# Altium schematic symbol library BSR NODE_V2.0 LIB.SchLib: 98 symbols
Pins are listed as number, name and electrical type; pins without a type are passive.

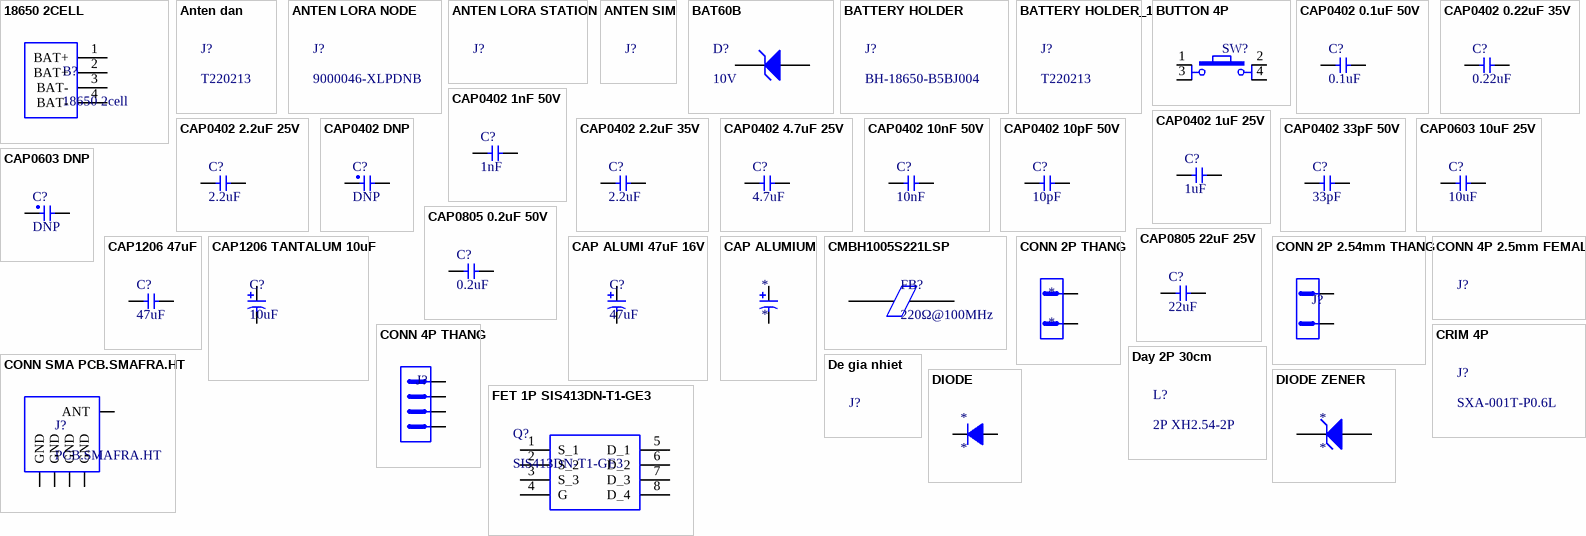
[diagram p0: symbols 18650 2CELL to FET 1P SIS413DN-T1-GE3]

## 18650 2CELL
designator B?, comment 18650 2cell
BATTERY HOLDER; Manufacturer: CXT; Manufacturer Part Number: T220213; Supplier: CXT; Unit Price: 9.000VND
footprint 18650 2CELL
pins: 1 BAT+, 2 BAT+, 3 BAT-, 4 BAT-

## Anten dan
designator J?, comment T220213
KK23011-32-7H  anten IPEX/IPX U.FL-R-SMT SMD; Manufacturer: CXT; Manufacturer Part Number: C022002; Supplier: CXT; Unit Price: 1.700VND

## ANTEN LORA NODE
designator J?, comment 9000046-XLPDNB
891.5MHz Cellular, LPWA, LoRa, IoT, ISM, Sigfox Whip, Straight RF Antenna 868MHz ~ 915MHz 0.9dBi SMA Male Connector Mount; Manufacturer: KYOCERA AVX; Manufacturer Part Number: 9000046-XLPDNB; Supplier: Digikey; Unit Price: $5.22

## ANTEN LORA STATION
designator J?  (value not drawn)
Anten Lora 868/915Mhz 30dBi SMA MALE; Manufacturer: HSHOP; Manufacturer Part Number: HS001654; Supplier: HSHOP; Unit Price: 150.000VND; ComponentLink1Description: Supplier Link; ComponentLink1URL: https://hshop.vn/products/anten-lora-868-915mhz-30dbi-sma-duc

## ANTEN SIM
designator J?  (value not drawn)
3G 4G LTE 15dB Receiver Antenna TS9/SMA Standard for 3G 4G Sim Wifi Transmitter; Manufacturer: HDG; Manufacturer Part Number: antenE5756; Supplier: VN; Unit Price: 150.000VND; ComponentLink1Description: Supplier Link; ComponentLink1URL: https://vienthonghdg.com/san-pham/anten-thu-song-3g-4g-lte-15db-chuan-ts9-sma-cho-bo-phat-wifi-sim-3g-4g-vien-thong-hdg/

## BAT60B
designator D?, comment 10V
Schottky Diode10V Single 600mV@1A 3A SOD-323 Schottky Barrier Diodes (SBD) ROHS; Manufacturer: High Diode; Manufacturer Part Number: BAT60B; Supplier: LCSC electronics; Unit Price: $0.0317
footprint SOT-323
pins: 1 K, 2 A

## BATTERY HOLDER
designator J?, comment BH-18650-B5BJ004
Battery case 18650 - Battery Connectors ROHS; Manufacturer: MYOUNG; Manufacturer Part Number: BH-18650-B5BJ004; Supplier: LCSC electronics; Unit Price: $0.8735

## BATTERY HOLDER_1
designator J?, comment T220213
Soldered 2-cell 18650 Battery Base 77x40x21mm; Manufacturer: CXT; Manufacturer Part Number: T220213; Supplier: CXT; Unit Price: 9.000VND

## BUTTON 4P
designator SW?, comment SW  (value not drawn)
4 Pin Push Button 6x6x22MM DIP (10 pcs); Manufacturer: Ban linh kien; Manufacturer Part Number: LK_13249; Supplier: Banlinhkien.com; Unit Price: 8.000VND
footprint BUTTON 4P
pins: 1, 2, 3, 4

## CAP0402 0.1uF 50V
designator C?, comment 0.1uF
50V 100nF ±10% 0402 Multilayer Ceramic Capacitors MLCC - SMD/SMT ROHS; Manufacturer: Samwha Capacitor; Manufacturer Part Number: CS1005X7R104K500NR; Supplier: LCSC electronics; Unit Price: $0.0017
footprint CAP 0402 (1005)
pins: 1, 2

## CAP0402 0.22uF 35V
designator C?, comment 0.22uF
35V 0.22uF X5R ±10% 0402 Multilayer Ceramic Capacitors MLCC - SMD/SMT ROHS; Manufacturer: Murata Electronics; Manufacturer Part Number: GRT155R6YA224KE01D; Supplier: LCSC electronics; Unit Price: US$ 0.0130
footprint CAP 0402 (1005)
pins: 1, 2

## CAP0402 1nF 50V
designator C?, comment 1nF
50V 1nF ±5% 0402 Multilayer Ceramic Capacitors MLCC - SMD/SMT ROHS; Manufacturer: Murata Electronics; Manufacturer Part Number: GCM1555C1H102JA16J; Supplier: LCSC electronics; Unit Price: $0.0109
footprint CAP 0402 (1005)
pins: 1, 2

## CAP0402 1uF 25V
designator C?, comment 1uF
25V 1uF ±10% 0402 Multilayer Ceramic Capacitors MLCC - SMD/SMT ROHS; Manufacturer: FH (Guangdong Fenghua Advanced Tech); Manufacturer Part Number: 0402X105K250NT; Supplier: LCSC electronics; Unit Price: US$ 0.0044
footprint CAP 0402 (1005)
pins: 1, 2

## CAP0402 2.2uF 25V
designator C?, comment 2.2uF
25V 2.2uF ±20% 0402 Multilayer Ceramic Capacitors MLCC - SMD/SMT ROHS; Manufacturer: SANYEAR; Manufacturer Part Number: C0402X5R225M250NT; Supplier: LCSC electronics; Unit Price: $0.0166
footprint CAP 0402 (1005)
pins: 1, 2

## CAP0402 2.2uF 35V
designator C?, comment 2.2uF
35V 2.2uF X5R ±20% 0402 Multilayer Ceramic Capacitors MLCC - SMD/SMT ROHS; Manufacturer: Murata Electronics; Manufacturer Part Number: GRM155R6YA225ME11D; Supplier: LCSC electronics; Unit Price: $0.0350
footprint CAP 0402 (1005)
pins: 1, 2

## CAP0402 4.7uF 25V
designator C?, comment 4.7uF
25V 4.7uF X5R 0402 Multilayer Ceramic Capacitors MLCC - SMD/SMT ROHS; Manufacturer: Murata Electronics; Manufacturer Part Number: GRM155R61E475ME15D; Supplier: LCSC electronics; Unit Price: $0.0433
footprint CAP 0402 (1005)
pins: 1, 2

## CAP0402 10nF 50V
designator C?, comment 10nF
50V 10nF ±5% 0402 Multilayer Ceramic Capacitors MLCC - SMD/SMT ROHS; Manufacturer: FH (Guangdong Fenghua Advanced Tech); Manufacturer Part Number: 0402B103J500NT; Supplier: LCSC electronics; Unit Price: $0.0018
footprint CAP 0402 (1005)
pins: 1, 2

## CAP0402 10pF 50V
designator C?, comment 10pF
50V 10pF CH ±2% 0402 Multilayer Ceramic Capacitors MLCC - SMD/SMT ROHS; Manufacturer: Murata Electronics; Manufacturer Part Number: GRM1552C1H100GA01D; Supplier: LCSC electronics; Unit Price: $0.0067
footprint CAP 0402 (1005)
pins: 1, 2

## CAP0402 33pF 50V
designator C?, comment 33pF
50V 33pF NP0 ±5% 0402 Multilayer Ceramic Capacitors MLCC - SMD/SMT ROHS; Manufacturer: YAGEO; Manufacturer Part Number: CC0402JRNPO9BN330; Supplier: LCSC electronics; Unit Price: $0.001
footprint CAP 0402 (1005)
pins: 1, 2

## CAP0402 DNP
designator C?, comment DNP
Cap do not populate
footprint CAP 0402 (1005)
pins: 1, 2

## CAP0603 10uF 25V
designator C?, comment 10uF
25V 10uF X5R ±20% 0603 Multilayer Ceramic Capacitors MLCC - SMD/SMT ROHS; Manufacturer: Chinocera; Manufacturer Part Number: HGC0603R5106M250NTHJ; Supplier: LCSC electronics; Unit Price: $0.0199
footprint CAP 0603 (1608)
pins: 1, 2

## CAP0603 DNP
designator C?, comment DNP
Cap do not populate
footprint CAP 0603 (1608)
pins: 1, 2

## CAP0805 0.2uF 50V
designator C?, comment 0.2uF
50V 200nF X7R ±10% 0805 Multilayer Ceramic Capacitors MLCC - SMD/SMT ROHS; Manufacturer: CCTC; Manufacturer Part Number: TCC0805X7R204K500DT; Supplier: LCSC electronics; Unit Price: $0.0120
footprint CAP 0805 (2012)
pins: 1, 2

## CAP0805 22uF 25V
designator C?, comment 22uF
25V 22uF X5R ±20% 0805 Multilayer Ceramic Capacitors MLCC - SMD/SMT ROHS; Manufacturer: Murata Electronics; Manufacturer Part Number: GRM21BR61E226ME44L; Supplier: LCSC electronics; Unit Price: $0.0448
footprint CAP 0805 (2012)
pins: 1, 2

## CAP1206 47uF
designator C?, comment 47uF
47uF ±10% 1206 Multilayer Ceramic Capacitors MLCC - SMD/SMT ROHS; Manufacturer: Murata Electronics; Manufacturer Part Number: GRM31CC80J476KE01L; Supplier: LCSC electronics; Unit Price: $0.1145
footprint CAP 1206 (3216)
pins: 1, 2

## CAP1206 TANTALUM 10uF
designator C?, comment 10uF
10uF 20V 150mΩ@100kHz ±20% 1206 Tantalum Capacitors ROHS; Manufacturer: Kyocera AVX; Manufacturer Part Number: TCJA106M020R0150; Supplier: LCSC electronics; Unit Price: $0.4964
footprint CAP 1206 TANTALUM
pins: 1 +, 2 -

## CAP ALUMI 47uF 16V
designator C?, comment 47uF
47uF 16V 31mA@120Hz ±20% SMD,D5xL5.4mm Aluminum Electrolytic Capacitors - SMD ROHS; Manufacturer: KNSCHA; Manufacturer Part Number: RST47UF16V034; Supplier: LCSC electronics; Unit Price: $0.0250
footprint CAP ALUMIUM 47uF
pins: 1 +, 2 -

## CAP ALUMIUM
designator *
pins: 1 +, 2 -

## CMBH1005S221LSP
designator FB?, comment 220Ω@100MHz
±25% 220Ω@100MHz 0402 Ferrite Beads ROHS; Manufacturer: Cybermax; Manufacturer Part Number: CMBH1005S221LSP; Supplier: LCSD electronics; Unit Price: $0.0055
footprint FB 0402 (1005)
pins: 1, 2

## CONN 2P 2.54mm THANG
designator J?, comment CONN  (value not drawn)
1x2P 1 XH/EH Tinning 2.54mm 2.54mm Female 2 -25℃~+85℃ Brass 3A Plug-in Plugin,P=2.5mm Wire To Board / Wire To Wire Connector ROHS; Manufacturer: SHOU HAN; Manufacturer Part Number: 2.54mm-2P ZZ; Supplier: LCSD electronics; Unit Price: $0.0069
footprint HEADER 2P 2.54MM ANGLE RIGHT
pins: 1, 2

## CONN 2P THANG
designator *
pins: 1, 2

## CONN 4P 2.5mm FEMALE
designator J?, comment XAP-04V-1  (value not drawn)
2.5mm 1x4P XA 4 1 P=2.5mm Rectangular Connectors Housings ROHS; Manufacturer: JST Sales America; Manufacturer Part Number: XAP-04V-1; Supplier: LCSD electronics; Unit Price: $0.0512

## CONN 4P THANG
designator J?, comment B04B-XASK-1-A(LF)(SN)  (value not drawn)
1x4P XA 1 Tin 2.5mm Male pin 4 -25℃~+85℃ Copper Alloy 3A Straight Plugin,P=2.5mm Wire To Board / Wire To Wire Connector ROHS; Manufacturer: JST Sales America; Manufacturer Part Number: B04B-XASK-1-A(LF)(SN); Supplier: LCSD electronics; Unit Price: $0.0784
footprint CONN 4P 2.5mm
pins: 1, 2, 3, 4

## CONN SMA PCB.SMAFRA.HT
designator J?, comment PCB.SMAFRA.HT
- RF Connectors / Coaxial Connectors ROHS; Manufacturer: Shenzhen Kinghelm Elec; Manufacturer Part Number: KH-SMA-K513-G48; Supplier: LCSD electronics; Unit Price: $0.6396
footprint SMA CONN
pins: 1 ANT, 2 GND, 3 GND, 4 GND, 5 GND

## CRIM 4P
designator J?, comment SXA-001T-P0.6L
Line Pressing Terminals ROHS; Manufacturer: JST Sales America; Manufacturer Part Number: SXA-001T-P0.6L; Supplier: LCSD electronics; Unit Price: $0.0135

## Day 2P 30cm
designator L?, comment 2P XH2.54-2P
2.5mm 1x2P XH 2 1 Plugin,P=2.54mm Rectangular Connectors Housings ROHS; Manufacturer: Ban linh kien; Manufacturer Part Number: LK_01075; Supplier: Banlinhkien.com; Unit Price: 2.000VND

## De gia nhiet
designator J?
220VAC 120x70mm component detachable heating plate (heating plate); Manufacturer: linh kien dien tu SMD; Manufacturer Part Number: 482470; Supplier: linh kien dien tu SMD; Unit Price: 80.000VND

## DIODE
designator *
pins: 1 K, 2 A

## DIODE ZENER
designator *
pins: 1 K, 2 A

## FET 1P SIS413DN-T1-GE3
designator Q?, comment SIS413DN-T1-GE3
MOSFET (P-Channel); Manufacturer: Vishay; Supplier: Digikey; Manufacturer Part Number: SIS413DN-T1-GE3; Unit Price: $0.57
footprint SIS862DNT1GE3
pins: 1 S_1, 2 S_2, 3 S_3, 4 G, 5 D_1, 6 D_2, 7 D_3, 8 D_4

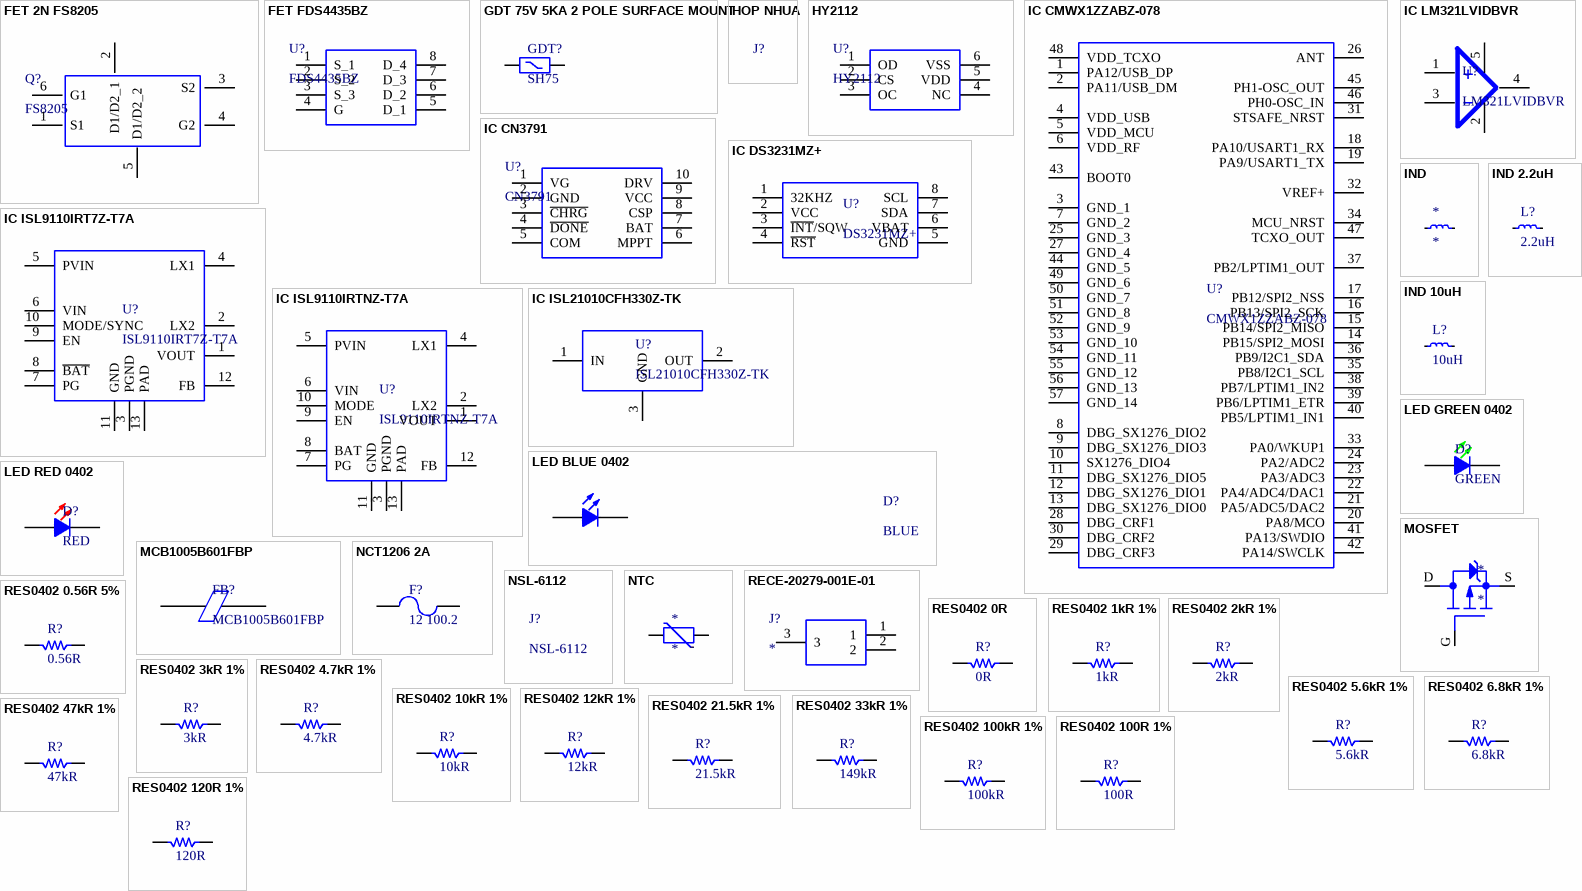
[diagram p1: symbols FET 2N FS8205 to RES0402 120R 1%]

## FET 2N FS8205
designator Q?, comment FS8205
20V 6A 28mΩ@4.5V,4A 1W 2 N-Channel SOT-23-6 MOSFETs ROHS; Manufacturer: Fortune Semicon; Manufacturer Part Number: FS8205; Supplier: LCSD electronics; Unit Price: $0.1805
footprint SOT95P280X125-6N
pins: 1 S1, 2 D1/D2_1, 3 S2, 4 G2, 5 D1/D2_2, 6 G1

## FET FDS4435BZ
designator U?, comment FDS4435BZ
SOT-23-6 Battery Management ICs ROHS; Manufacturer: HYCON Tech; Manufacturer Part Number: HY2112-BB; Supplier: LCSD electronics; Unit Price: $0.1053
footprint SOIC127P600X175-8N
pins: 1 S_1, 2 S_2, 3 S_3, 4 G, 5 D_1, 6 D_2, 7 D_3, 8 D_4

## GDT 75V 5KA 2 POLE SURFACE MOUNT
designator GDT?, comment SH75
Gas Discharge Tube 75 V 5000A (5kA) 2 Pole Surface Mount; Manufacturer: Littelfuse; Manufacturer Part Number: SH75; Supplier: Digikey; Unit Price: $1.61
footprint GDT
pins: 1, 2

## HOP NHUA
designator J?  (value not drawn)
Hop Nhua 158x91x46MM Mat Duc Co Tai; Manufacturer: Ban linh kien; Manufacturer Part Number: LK_01580; Supplier: banlinhkien.com; Unit Price: 42.000VND; ComponentLink1Description: Supplier Link; ComponentLink1URL: https://banlinhkien.com/hop-nhua-158x91x46mm-mat-duc-co-tai-p6652381.html

## HY2112
designator U?
SOT-23-6 Battery Management ICs ROHS; Manufacturer: HYCON Tech; Manufacturer Part Number: HY2112; Supplier: LCSD electronics; Unit Price: $0.1053
footprint SOT95P280X140-6N
pins: 1 OD, 2 CS, 3 OC, 4 NC, 5 VDD, 6 VSS

## IC CMWX1ZZABZ-078
designator U?, comment CMWX1ZZABZ-078
General ISM < 1GHz LoRa™ Transceiver Module 868MHz, 915MHz Surface Mount; Manufacturer: Murata Electronics; Manufacturer Part Number: CMWX1ZZABZ-078; Supplier: Digikey; Unit Price: $17.82
footprint CMWX1ZZABZ-078
pins: 1 PA12/USB_DP, 2 PA11/USB_DM, 3 GND_1, 4 VDD_USB, 5 VDD_MCU, 6 VDD_RF, 7 GND_2, 8 DBG_SX1276_DIO2, 9 DBG_SX1276_DIO3, 10 SX1276_DIO4, 11 DBG_SX1276_DIO5, 12 DBG_SX1276_DIO1, 13 DBG_SX1276_DIO0, 14 PB15/SPI2_MOSI, 15 PB14/SPI2_MISO, 16 PB13/SPI2_SCK, 17 PB12/SPI2_NSS, 18 PA10/USART1_RX, 19 PA9/USART1_TX, 20 PA8/MCO, 21 PA5/ADC5/DAC2, 22 PA4/ADC4/DAC1, 23 PA3/ADC3, 24 PA2/ADC2, 25 GND_3, 26 ANT, 27 GND_4, 28 DBG_CRF1, 29 DBG_CRF3, 30 DBG_CRF2, 31 STSAFE_NRST, 32 VREF+, 33 PA0/WKUP1, 34 MCU_NRST, 35 PB8/I2C1_SCL, 36 PB9/I2C1_SDA, 37 PB2/LPTIM1_OUT, 38 PB7/LPTIM1_IN2, 39 PB6/LPTIM1_ETR, 40 PB5/LPTIM1_IN1, 41 PA13/SWDIO, 42 PA14/SWCLK, 43 BOOT0, 44 GND_5, 45 PH1-OSC_OUT, 46 PH0-OSC_IN, 47 TCXO_OUT, 48 VDD_TCXO, 49 GND_6, 50 GND_7, 51 GND_8, 52 GND_9, 53 GND_10, 54 GND_11, 55 GND_12, 56 GND_13, 57 GND_14

## IC CN3791
designator U?, comment CN3791
SOP-10-1mm Battery Management ICs ROHS; Manufacturer: ShangHai Consonance Elec; Manufacturer Part Number: CN3791; Supplier: LCSD electronics; Unit Price: $0.5664
footprint SOP100P600X175-10N
pins: 1 VG, 2 GND, 3 ~{CHRG}, 4 ~{DONE}, 5 COM, 6 MPPT, 7 BAT, 8 CSP, 9 VCC, 10 DRV

## IC DS3231MZ+
designator U?, comment DS3231MZ+
I2C SOP-8 Real-time Clocks (RTC) ROHS; Manufacturer: Analog Devices Inc./Maxim Integrated; Manufacturer Part Number: DS3231MZ+TRL; Supplier: LCSD electronics; Unit Price: $1.9887
footprint SOIC127P600X175-8N
pins: 1 32KHZ, 2 VCC, 3 ~{INT}/SQW, 4 ~{RST}, 5 GND, 6 VBAT, 7 SDA, 8 SCL

## IC ISL9110IRT7Z-T7A
designator U?, comment ISL9110IRT7Z-T7A
Buck-Boost Switching Regulator IC Positive Fixed 5V 1 Output 1.2A 12-WFDFN Exposed Pad; Manufacturer: Renesas Electronics America Inc; Manufacturer Part Number: ISL9110IRT7Z-T7A; Supplier: Digikey; Unit Price: $3.1
footprint 12-WFDFN EXPOSED PAD
pins: 1 VOUT, 2 LX2, 3 PGND, 4 LX1, 5 PVIN, 6 VIN, 7 PG, 8 ~{BAT}, 9 EN, 10 MODE/SYNC, 11 GND, 12 FB, 13 PAD

## IC ISL9110IRTNZ-T7A
designator U?, comment ISL9110IRTNZ-T7A
Buck-Boost Switching Regulator IC Positive Fixed 3.3V 1 Output 1.2A 12-WFDFN Exposed Pad; Manufacturer: Renesas Electronics America Inc; Manufacturer Part Number: ISL9110IRTNZ-T7A; Supplier: Digikey; Unit Price: $3.1
footprint 12-WFDFN EXPOSED PAD
pins: 1 VOUT, 2 LX2, 3 PGND, 4 LX1, 5 PVIN, 6 VIN, 7 PG, 8 BAT, 9 EN, 10 MODE, 11 GND, 12 FB, 13 PAD

## IC ISL21010CFH330Z-TK
designator U?, comment ISL21010CFH330Z-TK
Series Voltage Reference IC Fixed 3V V ±0.2% 25 mA SOT-23-3; Manufacturer: Renesas Electronics America Inc; Manufacturer Part Number: ISL21010CFH330Z-TK; Supplier: Digikey; Unit Price: $2.9
footprint SOT-23-3
pins: 1 IN, 2 OUT, 3 GND

## IC LM321LVIDBVR
designator U?, comment LM321LVIDBVR
General Purpose Amplifier 1 Circuit SOT-23-5; Manufacturer: Texas Instruments; Manufacturer Part Number: LM321LVIDBVR; Supplier: Digikey; Unit price: $0.26
footprint SOT-23-5
pins: 1, 2, 3, 4, 5

## IND
designator *
pins: 1, 2

## IND 2.2uH
designator L?, comment 2.2uH
2.2uH Magnetic inductor 20% 1.22A SMD,3x3mm Power Inductors ROHS; Manufacturer: APV; Manufacturer Part Number: ANR3012T2R2M; Supplier: LCSC electronics; Unit Price: $0.0390
footprint IND 4028
pins: 1, 2

## IND 10uH
designator L?, comment 10uH
10uH ±20% SMD,4x4x2mm Power Inductors ROHS; Manufacturer: SXN(Shun Xiang Nuo Elec); Manufacturer Part Number: SMNR4020-10UH; Supplier: LCSC electronics; Unit Price: $0.0639
footprint IND 10uH 4x4x2mm
pins: 1, 2

## LED BLUE 0402
designator D?, comment BLUE
blue 0402 Light Emitting Diodes (LED) ROHS; Manufacturer: BrtLed(Bright LED Elec); Manufacturer Part Number: BL-HB337A-AV-TRB; Supplier: LCSD electronics; Unit Price: $0.0178
footprint LED0402 BLUE
pins: 1 A, 1 A, 2 K

## LED GREEN 0402
designator D?, comment GREEN
Green/Yellow-Green 0402 Light Emitting Diodes (LED) ROHS; Manufacturer: Yongyu Photoelectric; Manufacturer Part Number: SZYY0402YG; Supplier: LCSD electronics; Unit Price: $0.0153
footprint LED 0402 GREEN
pins: 1 A, 2 K

## LED RED 0402
designator D?, comment RED
Red 0402 Light Emitting Diodes (LED) ROHS; Manufacturer: BrtLed(Bright LED Elec); Manufacturer Part Number: BL-HUB37A-AV-TRB; Supplier: LCSD electronics; Unit Price: $0.0171
footprint LED 0402 RED
pins: 1 A, 2 K

## MCB1005B601FBP
designator FB?
600mΩ ±25% 600Ω@100MHz 0402 Ferrite Beads ROHS; Manufacturer: INPAQ; Manufacturer Part Number: MCB1005B601FBP; Supplier: LCSD electronics; Unit Price: $0.0023
footprint FB 0402 (1005)
pins: 1, 2

## MOSFET
designator *
pins: D, G, S

## NCT1206 2A
designator F?, comment 12 100.2
SMD Fuse 2A 1206 Fuses ROHS; Manufacturer: Shenzhen Jinkaisheng Elec; Manufacturer Product Number: 12 100.2; Supplier: LCSC electronics; Unit Price: $0.0458
footprint NTC 1206
pins: 1, 2

## NSL-6112
designator J?
CDS PHOTORESISTOR; Manufacturer: Advanced Photonix; Manufacturer Part Number: NSL-6112; Supplier: Digikey; Unit Price: $2.33

## NTC
designator *
pins: 1, 2

## RECE-20279-001E-01
designator J?
Connector; Manufacturer_Name: Taoglas; Manufacturer_Part_Number: RECE-20279-001E-01; Mouser Part Number: N/A; Mouser Price/Stock: https://www.mouser.co.uk/ProductDetail/Taoglas/RECE-20279-001E-01?qs=WUa1z%2FNV9%252B3mVij1vDlP0A%3D%3D
footprint RECE.20279.001E.01
pins: 1, 2, 3

## RES0402 0.56R 5%
designator R?, comment 0.56R
±5% 560mΩ 0402 Chip Resistor - Surface Mount ROHS; Manufacturer: VO; Manufacturer Part Number: SCR0402JR560; Supplier: LCSC electronics; Unit Price: $0.0027
footprint RES 0402 (1005)
pins: 1, 2

## RES0402 0R
designator R?, comment 0R
0Ω 0402 Chip Resistor - Surface Mount ROHS; Manufacturer: KOA Speer Elec; Manufacturer Part Number: RK73Z1ETTP; Supplier: LCSC electronics; Unit Price: $0.0072
footprint RES 0402 (1005)
pins: 1, 2

## RES0402 1kR 1%
designator R?, comment 1kR
±5% 1kΩ 0402 Chip Resistor - Surface Mount ROHS; Manufacturer: VO; Manufacturer Part Number: SCR0402J1K; Supplier: LCSC electronics; Unit Price: $0.0004
footprint RES 0402 (1005)
pins: 1, 2

## RES0402 2kR 1%
designator R?, comment 2kR
±1% 2kΩ 0402 Chip Resistor - Surface Mount ROHS; Manufacturer: VO; Manufacturer Part Number: SCR0402F2K; Supplier: LCSC electronics; Unit Price: $0.0005
footprint RES 0402 (1005)
pins: 1, 2

## RES0402 3kR 1%
designator R?, comment 3kR
±1% 3kΩ 0402 Chip Resistor - Surface Mount ROHS; Manufacturer: VO; Manufacturer Part Number: SCR0402F3K; Supplier: LCSC electronics; Unit Price: $0.0005
footprint RES 0402 (1005)
pins: 1, 2

## RES0402 4.7kR 1%
designator R?, comment 4.7kR
±1% 4.7kΩ 0402 Chip Resistor - Surface Mount ROHS; Manufacturer: VO; Manufacturer Part Number: SCR0402F4K7; Supplier: LCSC electronics; Unit Price: $0.0005
footprint RES 0402 (1005)
pins: 1, 2

## RES0402 5.6kR 1%
designator R?, comment 5.6kR
±1% 5.6kΩ 0402 Chip Resistor - Surface Mount ROHS; Manufacturer: VO; Manufacturer Part Number: SCR0402F5K6; Supplier: LCSC electronics; Unit Price: $0.0005
footprint RES 0402 (1005)
pins: 1, 2

## RES0402 6.8kR 1%
designator R?, comment 6.8kR
±1% 6.8kΩ 0402 Chip Resistor - Surface Mount ROHS; Manufacturer: VO; Manufacturer Part Number: SCR0402F6K8; Supplier: LCSC electronics; Unit Price: $0.0005
footprint RES 0402 (1005)
pins: 1, 2

## RES0402 10kR 1%
designator R?, comment 10kR
±1% 10kΩ 0402 Chip Resistor - Surface Mount ROHS; Manufacturer: VO; Manufacturer Part Number: SCR0402F10K; Supplier: LCSC electronics; Unit Price: $0.0005
footprint RES 0402 (1005)
pins: 1, 2

## RES0402 12kR 1%
designator R?, comment 12kR
±1% 12kΩ 0402 Chip Resistor - Surface Mount ROHS; Manufacturer: VO; Manufacturer Part Number: SCR0402F12K; Supplier: LCSC electronics; Unit Price: $0.0005
footprint RES 0402 (1005)
pins: 1, 2

## RES0402 21.5kR 1%
designator R?, comment 21.5kR
62.5mW ±1% 21.5kΩ 0402 Chip Resistor - Surface Mount ROHS; Manufacturer: TyoHM; Manufacturer Part Number: RMC040221.5K1%N; Supplier: LCSC electronics; Unit Price: $0.0022
footprint RES 0402 (1005)
pins: 1, 2

## RES0402 33kR 1%
designator R?, comment 149kR
±1% 33kΩ 0402 Chip Resistor - Surface Mount ROHS; Manufacturer: VO; Manufacturer Part Number: SCR0402F33K; Supplier: LCSC electronics; Unit Price: $0.0005
footprint RES 0402 (1005)
pins: 1, 2

## RES0402 47kR 1%
designator R?, comment 47kR
±1% 47kΩ 0402 Chip Resistor - Surface Mount ROHS; Manufacturer: VO; Manufacturer Part Number: SCR0402F47K; Supplier: LCSC electronics; Unit Price: $0.0005
footprint RES 0402 (1005)
pins: 1, 2

## RES0402 100kR 1%
designator R?, comment 100kR
±1% 100kΩ 0402 Chip Resistor - Surface Mount ROHS; Manufacturer: VO; Manufacturer Part Number: SCR0402F100K; Supplier: LCSC electronics; Unit Price: $0.0005
footprint RES 0402 (1005)
pins: 1, 2

## RES0402 100R 1%
designator R?, comment 100R
±1% 100Ω 0402 Chip Resistor - Surface Mount ROHS; Manufacturer: VO; Manufacturer Part Number: SCR0402F100R; Supplier: LCSC electronics; Unit Price: $0.0005
footprint RES 0402 (1005)
pins: 1, 2

## RES0402 120R 1%
designator R?, comment 120R
±1% 120Ω 0402 Chip Resistor - Surface Mount ROHS; Manufacturer: VO; Manufacturer Part Number: SCR0402F120R; Supplier: LCSC electronics; Unit Price: $0.0005
footprint RES 0402 (1005)
pins: 1, 2

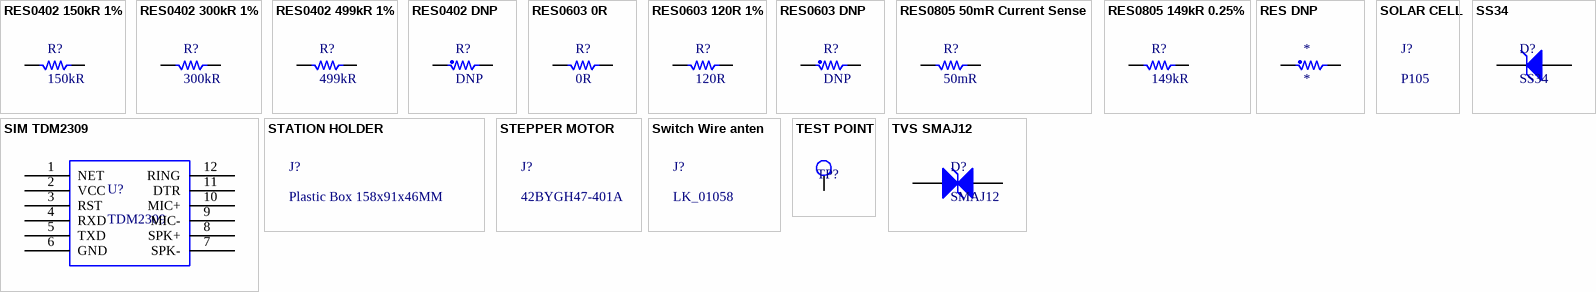
[diagram p2: symbols RES0402 150kR 1% to TVS SMAJ12]

## RES0402 150kR 1%
designator R?, comment 150kR
±1% 150kΩ 0402 Chip Resistor - Surface Mount ROHS; Manufacturer: VO; Manufacturer Part Number: SCR0402F150K; Supplier: LCSC electronics; Unit Price: $0.0005
footprint RES 0402 (1005)
pins: 1, 2

## RES0402 300kR 1%
designator R?, comment 300kR
±1% 300kΩ 0402 Chip Resistor - Surface Mount ROHS; Manufacturer: VO; Manufacturer Part Number: SCR0402F300K; Supplier: LCSC electronics; Unit Price: $0.0005
footprint RES 0402 (1005)
pins: 1, 2

## RES0402 499kR 1%
designator R?, comment 499kR
±1% 499kΩ 0402 Chip Resistor - Surface Mount ROHS; Manufacturer: VO; Manufacturer Part Number: SCR0402F499K; Supplier: LCSC electronics; Unit Price: $0.0005
footprint RES 0402 (1005)
pins: 1, 2

## RES0402 DNP
designator R?, comment DNP
Res do not populate
footprint RES 0402 (1005)
pins: 1, 2

## RES0603 0R
designator R?, comment 0R
0Ω 0603 Chip Resistor - Surface Mount ROHS; Manufacturer: KOA Speer Elec; Manufacturer Part Number: RK73Z1JTTD; Supplier: LCSC electronics; Unit Price: $0.0048
footprint RES 0603 (1608)
pins: 1, 2

## RES0603 120R 1%
designator R?, comment 120R
±1% 120Ω 0603 Chip Resistor - Surface Mount ROHS; Manufacturer: VO; Manufacturer Part Number: SCR0603F120R; Supplier: LCSC electronics; Unit Price: $0.0009
footprint RES 0603 (1608)
pins: 1, 2

## RES0603 DNP
designator R?, comment DNP
Res do not populate
footprint RES 0603 (1608)
pins: 1, 2

## RES0805 50mR Current Sense
designator R?, comment 50mR
50mΩ ±1% 0805 Current Sense Resistors/Shunt Resistors ROHS; Manufacturer: TA-I Tech; Manufacturer Part Number: RL10FTNR050; Supplier: LCSC electronics; Unit Price: $0.0152
footprint RES 0805 (2012)
pins: 1, 2

## RES0805 149kR 0.25%
designator R?, comment 149kR
±0.25% 149kΩ 0805 Chip Resistor - Surface Mount ROHS; Manufacturer: Viking Tech; Manufacturer Part Number: AR05CTC1493N; Supplier: LCSC electronics; Unit Price: $0.0344
footprint CAP 0805 (2012)
pins: 1, 2

## RES DNP
designator *
pins: 1, 2

## SIM TDM2309
designator U?, comment TDM2309
Module 4G SIMCOM A7680C TDM2309; Manufacturer: SIMCOM; Manufacturer Part Number: TDM2309; Supplier: https://linhkienthuduc.com/; Unit Price: 189.000VND
pins: 1 NET, 2 VCC, 3 RST, 4 RXD, 5 TXD, 6 GND, 7 SPK-, 8 SPK+, 9 MIC-, 10 MIC+, 11 DTR, 12 RING

## SOLAR CELL
designator J?, comment P105
5.5W 6V SOLAR PANEL ETFE; Manufacturer: Voltaic Systems; Manufacturer Part Number: P105; Supplier: Digikey; Unit Price: $35.00

## SS34
designator D?
40V Single 0.55V@3.0A 3A SMA Schottky Barrier Diodes (SBD) ROHS; Manufacturer: onsemi; Manufacturer Part Number: SS34; Supplier: LCSC electronics; Unit Price: $0.0242
footprint DIOM8059X256N
pins: 1 K, 2 A

## STATION HOLDER
designator J?, comment Plastic Box 158x91x46MM
Plastic Box 158x90x46mm Inside with Ear; Manufacturer: Ban linh kien; Manufacturer Part Number: LK_01581; Supplier: Banlinhkien.com; Unit Price: 70.000VND

## STEPPER MOTOR
designator J?, comment 42BYGH47-401A
Stepper Motor 42BYGH47-401A 12V 1.8 Degree; Manufacturer: 3M; Manufacturer Part Number: PVX82587; Supplier: https://chotroihn.vn/; Unit Price: 199000VND

## Switch Wire anten
designator J?, comment LK_01058
IPX to SMA Converter Cord 20CM Long IPX-SMA-20-M (IPEX U.FL To SMA); Manufacturer: ban linh kien; Manufacturer Part Number: LK_01058; Supplier: ban linh kien; Unit Price: 30.000VND

## TEST POINT
designator TP?
footprint TEST POINT
pins: 1

## TVS SMAJ12
designator D?, comment SMAJ12
19.9V 13.3V 12V SMA(DO-214AC) TVS ROHS; Manufacturer: MDD（Microdiode Electronics）; Manufacturer Part Number: SMAJ12A; Supplier: LCSC electronics; Unit Price: $0.0342
footprint DO-214AC
pins: 1 K, 2 A